# Altium footprint library SN74LS08N.PcbLib: 1 footprints
Each footprint in its own frame and in the unit in brackets; x right, y up, seen from the top. Pads: shape width x height; smd on the part's side, far side on the other; paste and mask are expansions set on the pad; w line width, h text height; cw(c..) or ccw(c..) is an arc to the next point about the centre after c.
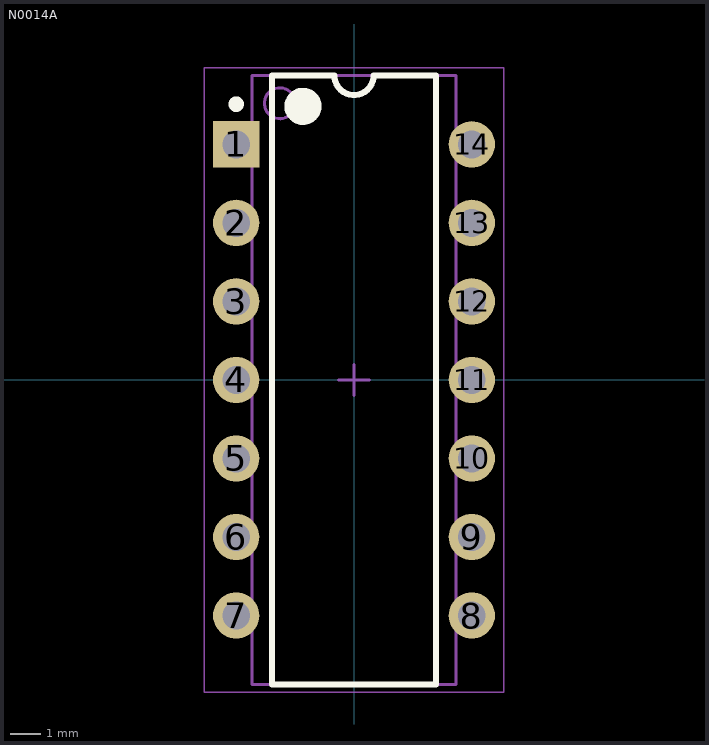
[diagram p0: the footprint, top view; thin cyan lines are the x and y axes]

## N0014A [mm] "DIP, 14-Leads, Body 19.7x6.6mm, Pitch 2.54mm"
height 5.08
pads (14):
  rect 1.5x1.5 hole 0.9: 1(-3.81,7.62)
  round 1.5 hole 0.9: 2(-3.81,5.08) 3(-3.81,2.54) 4(-3.81,0) 5(-3.81,-2.54) 6(-3.81,-5.08) 7(-3.81,-7.62) 8(3.81,-7.62) 9(3.81,-5.08) 10(3.81,-2.54) 11(3.81,0) 12(3.81,2.54) 13(3.81,5.08) 14(3.81,7.62)
Top Overlay:
  circle w0.6: c-1.65,8.85 r0.3
  circle w0.25: c-3.81,8.92 r0.125
  lines w0.2: -2.65,-9.85 2.65,-9.85 2.65,9.85 0.635,9.85 cw(c0,9.85) -0.635,9.85 -2.65,9.85 -2.65,-9.85
Mechanical 1:
  text ".Designator" at -3.048,-0.508 h1.2
Mechanical 13:
  circle w0.1: c-2.4,8.95 r0.5
  lines w0.1: -3.3,-9.85 3.3,-9.85 3.3,9.85 -3.3,9.85 -3.3,-9.85
Mechanical 15:
  lines w0.05: -4.85,-10.1 4.85,-10.1 4.85,10.1 -4.85,10.1 -4.85,-10.1
  lines w0.1: -0.5,0 0.5,0 ; 0,-0.5 0,0.5
3D body: height 5.08, standoff 0.51, extent -3.3,-9.85 3.3,9.85
3D body: height 0, standoff -1.6, extent 3.675,7.26 3.945,7.98
3D body: height 2.93, standoff 2.66, extent 3.3,7.12 3.945,8.12
3D body: height 2.66, standoff 0, extent 3.675,7.12 3.945,8.12
3D body: height 0, standoff -1.6, extent 3.675,4.72 3.945,5.44
3D body: height 2.93, standoff 2.66, extent 3.3,4.58 3.945,5.58
3D body: height 2.66, standoff 0, extent 3.675,4.58 3.945,5.58
3D body: height 0, standoff -1.6, extent 3.675,2.18 3.945,2.9
3D body: height 2.93, standoff 2.66, extent 3.3,2.04 3.945,3.04
3D body: height 2.66, standoff 0, extent 3.675,2.04 3.945,3.04
3D body: height 0, standoff -1.6, extent 3.675,-0.36 3.945,0.36
3D body: height 2.93, standoff 2.66, extent 3.3,-0.5 3.945,0.5
3D body: height 2.66, standoff 0, extent 3.675,-0.5 3.945,0.5
3D body: height 0, standoff -1.6, extent 3.675,-2.9 3.945,-2.18
3D body: height 2.93, standoff 2.66, extent 3.3,-3.04 3.945,-2.04
3D body: height 2.66, standoff 0, extent 3.675,-3.04 3.945,-2.04
3D body: height 0, standoff -1.6, extent 3.675,-5.44 3.945,-4.72
3D body: height 2.93, standoff 2.66, extent 3.3,-5.58 3.945,-4.58
3D body: height 2.66, standoff 0, extent 3.675,-5.58 3.945,-4.58
3D body: height 0, standoff -1.6, extent 3.675,-7.98 3.945,-7.26
3D body: height 2.93, standoff 2.66, extent 3.3,-8.12 3.945,-7.12
3D body: height 2.66, standoff 0, extent 3.675,-8.12 3.945,-7.12
3D body: height 0, standoff -1.6, extent -3.945,-7.98 -3.675,-7.26
3D body: height 2.93, standoff 2.66, extent -3.945,-8.12 -3.3,-7.12
3D body: height 2.66, standoff 0, extent -3.945,-8.12 -3.675,-7.12
3D body: height 0, standoff -1.6, extent -3.945,-5.44 -3.675,-4.72
3D body: height 2.93, standoff 2.66, extent -3.945,-5.58 -3.3,-4.58
3D body: height 2.66, standoff 0, extent -3.945,-5.58 -3.675,-4.58
3D body: height 0, standoff -1.6, extent -3.945,-2.9 -3.675,-2.18
3D body: height 2.93, standoff 2.66, extent -3.945,-3.04 -3.3,-2.04
3D body: height 2.66, standoff 0, extent -3.945,-3.04 -3.675,-2.04
3D body: height 0, standoff -1.6, extent -3.945,-0.36 -3.675,0.36
3D body: height 2.93, standoff 2.66, extent -3.945,-0.5 -3.3,0.5
3D body: height 2.66, standoff 0, extent -3.945,-0.5 -3.675,0.5
3D body: height 0, standoff -1.6, extent -3.945,2.18 -3.675,2.9
3D body: height 2.93, standoff 2.66, extent -3.945,2.04 -3.3,3.04
3D body: height 2.66, standoff 0, extent -3.945,2.04 -3.675,3.04
3D body: height 0, standoff -1.6, extent -3.945,4.72 -3.675,5.44
3D body: height 2.93, standoff 2.66, extent -3.945,4.58 -3.3,5.58
3D body: height 2.66, standoff 0, extent -3.945,4.58 -3.675,5.58
3D body: height 0, standoff -1.6, extent -3.945,7.26 -3.675,7.98
3D body: height 2.93, standoff 2.66, extent -3.945,7.12 -3.3,8.12
3D body: height 2.66, standoff 0, extent -3.945,7.12 -3.675,8.12